# EAGLE library part LMH1980MM (library crasbe)
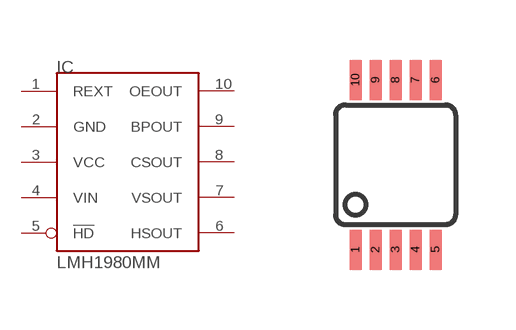
[diagram p53: symbol with the pads of VSSOP-10; footprint VSSOP-10]

Designator prefix IC

## LMH1980MM  [VSSOP-10]
1  REXT  in
2  GND  pwr
3  VCC  pwr
4  VIN  in
5  !HD  out
6  HSOUT  out
7  VSOUT  out
8  CSOUT  out
9  BPOUT  out
10  OEOUT  out

## Footprint VSSOP-10 (pad centres in mm)
smd 0.3 x 1: 1 -1,-2.125; 2 -0.5,-2.125; 3 0,-2.125; 4 0.5,-2.125; 5 1,-2.125; 6 1,2.125; 7 0.5,2.125; 8 0,2.125; 9 -0.5,2.125; 10 -1,2.125